# Altium schematic symbol library W25Q256JVFIQ.SchLib: 1 symbol
Pins are listed as number, name and electrical type; pins without a type are passive.

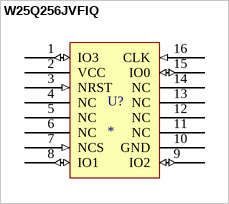
[diagram p0: symbol W25Q256JVFIQ]

## W25Q256JVFIQ
designator U?
footprint SOIC-16_300mil
pins: 1 IO3 (io), 2 VCC (power), 3 NRST (in), 4 NC, 5 NC, 6 NC, 7 NCS (in), 8 IO1 (io), 9 IO2 (io), 10 GND (power), 11 NC, 12 NC, 13 NC, 14 NC, 15 IO0 (io), 16 CLK (in)